# Altium footprint library PcbLibForHigh_Voltage_Sensor.PcbLib: 50 footprints (part 3 of 4)
Each footprint in its own frame and in the unit in brackets; x right, y up, seen from the top. Pads: shape width x height; smd on the part's side, far side on the other; paste and mask are expansions set on the pad; w line width, h text height; cw(c..) or ccw(c..) is an arc to the next point about the centre after c.
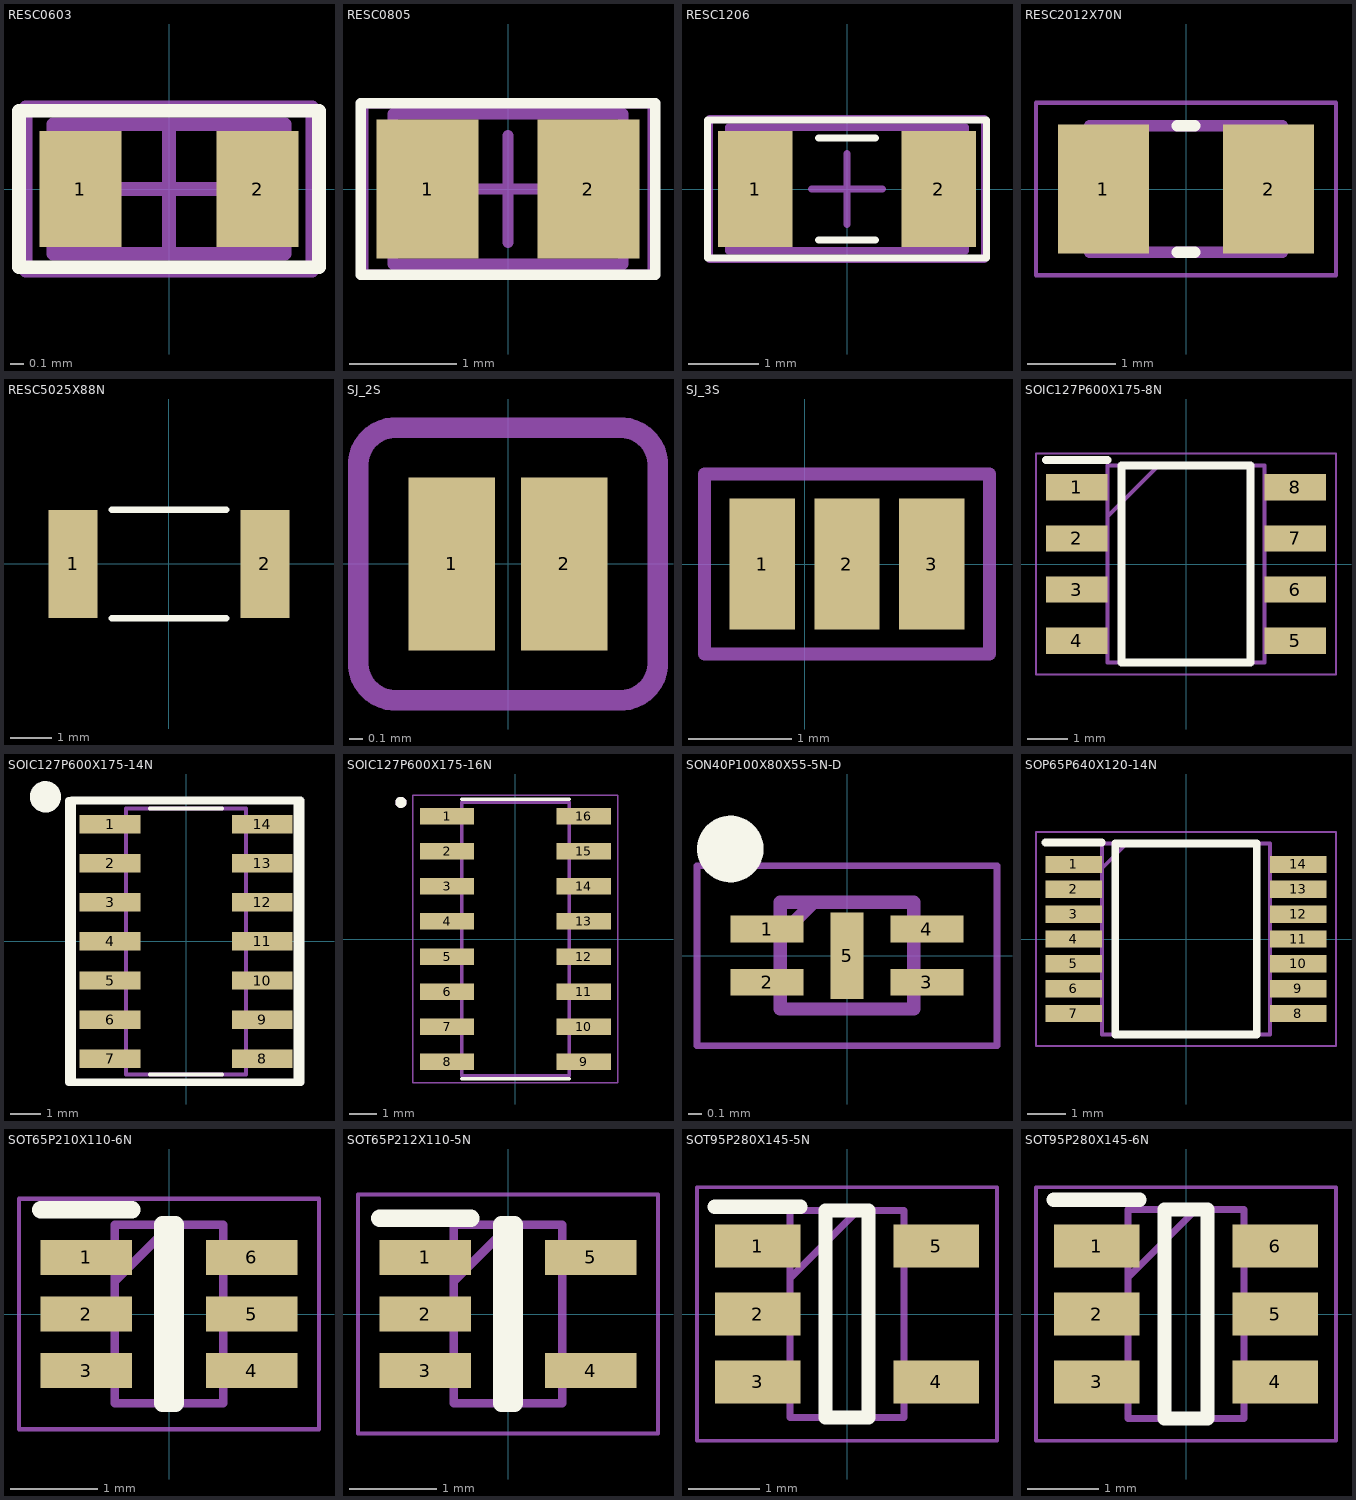
[diagram p2: the footprints below, top view; thin cyan lines are the x and y axes]

## RESC0603 [mm] "Chip Resistor 0603, 2-Leads, Body 1.60x0.82mm, IPC High Density"
height 0.6
pads (2):
  rect 0.6x0.85 smd: 1(-0.65,0) 2(0.65,0)
Top Overlay:
  lines w0.1: -1.1,-0.575 1.1,-0.575 1.1,0.575 -1.1,0.575 -1.1,-0.575
Mechanical 13:
  lines w0.1: -0.85,-0.475 -0.85,0.475 0.85,0.475 0.85,-0.475 -0.85,-0.475
Mechanical 15:
  lines w0.05: -1.05,-0.6 -1.05,0.6 1.05,0.6 1.05,-0.6 -1.05,-0.6
  lines w0.1: -0.475,0 0.475,0 ; 0,-0.475 0,0.475
Mechanical 29:
  lines w0.1: -1.05,-0.6 -1.05,0.6 1.05,0.6 1.05,-0.6 -1.05,-0.6
  text "'.Designator'" at -1.05,-0.2 h0.5
3D body: height 0.6, standoff 0, extent -0.57,-0.475 0.57,0.475
3D body: height 0.6, standoff 0, extent -0.85,-0.475 -0.57,0.475
3D body: height 0.6, standoff 0, extent 0.57,-0.475 0.85,0.475

## RESC0805 [mm] "Chip Resistor 0805, 2-Leads, Body 2.00x1.25mm, IPC High Density"
height 0.65
pads (2):
  rect 0.95x1.3 smd: 1(-0.75,0) 2(0.75,0)
Top Overlay:
  lines w0.1: -1.375,-0.8 -1.375,0.8 1.375,0.8 1.375,-0.8 -1.375,-0.8
Mechanical 13:
  lines w0.1: -1.075,-0.7 1.075,-0.7 1.075,0.7 -1.075,0.7 -1.075,-0.7
Mechanical 15:
  lines w0.05: -1.35,-0.8 1.35,-0.8 1.35,0.8 -1.35,0.8 -1.35,-0.8
  lines w0.1: -0.5,0 0.5,0 ; 0,-0.5 0,0.5
Mechanical 29:
  lines w0.1: -1.35,-0.8 1.35,-0.8 1.35,0.8 -1.35,0.8 -1.35,-0.8
  text "'.Designator'" at -1.2,-0.2 h0.5
3D body: height 0.65, standoff 0, extent 0.675,-0.7 1.075,0.7
3D body: height 0.65, standoff 0, extent -1.075,-0.7 -0.675,0.7
3D body: height 0.65, standoff 0, extent -0.675,-0.7 0.675,0.7

## RESC1206 [mm] "Chip Resistor 1206, 2-Leads, Body 3.20x1.60mm, IPC High Density"
height 0.71
pads (2):
  rect 1.05x1.65 smd: 1(-1.3,0) 2(1.3,0)
Top Overlay:
  lines w0.1: -0.4,-0.725 0.4,-0.725 ; -0.4,0.725 0.4,0.725 ; -1.975,-0.975 1.975,-0.975 1.975,0.975 -1.975,0.975 -1.975,-0.975
Mechanical 13:
  lines w0.1: -1.675,-0.875 -1.675,0.875 1.675,0.875 1.675,-0.875 -1.675,-0.875
Mechanical 15:
  lines w0.05: -1.95,-1 -1.95,1 1.95,1 1.95,-1 -1.95,-1
  lines w0.1: -0.5,0 0.5,0 ; 0,-0.5 0,0.5
Mechanical 29:
  lines w0.1: -1.95,-1 -1.95,1 1.95,1 1.95,-1 -1.95,-1
  text "'.Designator'" at -1.825,-0.225 h0.5
3D body: height 0.71, standoff 0, extent -1.175,-0.875 1.175,0.875
3D body: height 0.71, standoff 0, extent -1.675,-0.875 -1.175,0.875
3D body: height 0.71, standoff 0, extent 1.175,-0.875 1.675,0.875

## RESC2012X70N [mm]
pads (2):
  rect 1.04x1.47 smd: 1(-0.94,0) 2(0.94,0)
Top Overlay:
  lines w0.127: -0.1,-0.72 0.1,-0.72 ; -0.1,0.72 0.1,0.72
Mechanical 13:
  lines w0.127: -1.1,-0.72 1.1,-0.72 1.1,0.72 -1.1,0.72 -1.1,-0.72
Mechanical 15:
  lines w0.05: -1.708,-0.983 1.708,-0.983 1.708,0.983 -1.708,0.983 -1.708,-0.983
3D body "KRL1220E-M-R100-F-T5.STEP": height 0.7, standoff 0, extent -1.102,-0.635 0.898,0.615

## RESC5025X88N [mil]
pads (2):
  rect 47x104 smd: 1(-92,0) 2(92,0)
Top Overlay:
  lines w6: -55,-52 55,-52 ; -55,52 55,52
3D body "WSL2010R0100FEA.stp": height 25, standoff 0, extent -100,-50 100,50

## SJ_2S [mm] "SJ_2S"
pads (2):
  rect 0.635x1.27 smd: 1(-0.412,0) 2(0.412,0)
Mechanical 22:
  lines w0.152: -1.1,-0.75 ccw(c-0.825,-0.725) -0.8,-1 0.8,-1 ccw(c0.825,-0.725) 1.1,-0.75 1.1,0.75 ccw(c0.825,0.725) 0.8,1 -0.8,1 ccw(c-0.825,0.725) -1.1,0.75 -1.1,-0.75

## SJ_3S [mm]
pads (3):
  rect 0.635x1.27 smd: 1(-0.412,0) 2(0.412,0) 3(1.237,0)
Mechanical 15:
  lines w0.127: -0.975,-0.875 -0.975,0.875 1.8,0.875 1.8,-0.875 -0.975,-0.875

## SOIC127P600X175-8N [mm]
pads (8):
  rect 1.525x0.65 smd: 1(-2.712,1.905) 2(-2.712,0.635) 3(-2.712,-0.635) 4(-2.712,-1.905) 5(2.712,-1.905) 6(2.712,-0.635) 7(2.712,0.635) 8(2.712,1.905)
Top Overlay:
  lines w0.2: -3.475,2.58 -1.95,2.58 ; -1.6,-2.45 1.6,-2.45 1.6,2.45 -1.6,2.45 -1.6,-2.45
Mechanical 13:
  lines w0.1: -1.95,1.18 -0.68,2.45 ; -1.95,-2.45 1.95,-2.45 1.95,2.45 -1.95,2.45 -1.95,-2.45
Mechanical 15:
  lines w0.05: -3.725,-2.75 3.725,-2.75 3.725,2.75 -3.725,2.75 -3.725,-2.75
3D body "NE555DR.stp": height 1.75, standoff 0, extent -3,-2.45 3,2.45

## SOIC127P600X175-14N [mm]
pads (14):
  rect 1.97x0.6 smd: 1(-2.475,3.81) 2(-2.475,2.54) 3(-2.475,1.27) 4(-2.475,0) 5(-2.475,-1.27) 6(-2.475,-2.54) 7(-2.475,-3.81) 8(2.475,-3.81) 9(2.475,-2.54) 10(2.475,-1.27) 11(2.475,0) 12(2.475,1.27) 13(2.475,2.54) 14(2.475,3.81)
Top Overlay:
  circle w0.508: c-4.572,4.699 r0.254
  lines w0.127: -1.17,-4.325 1.17,-4.325 ; -1.17,4.325 1.17,4.325
  lines w0.254: -3.81,-4.578 -3.81,4.572 3.61,4.572 3.61,-4.578 -3.81,-4.578 ; -3.71,-4.575 3.71,-4.575 3.71,4.575 -3.71,4.575 -3.71,-4.575
Dimensions:
  lines w0.127: -1.95,-4.325 1.95,-4.325 ; -1.95,-4.325 -1.95,4.325 ; -1.95,-4.325 1.95,-4.325 ; -1.95,-4.325 -1.95,4.325 ; -1.95,4.325 1.95,4.325 ; -1.95,4.325 1.95,4.325 ; 1.95,-4.325 1.95,4.325 ; 1.95,-4.325 1.95,4.325
Mechanical 16:
  lines w0.05: -3.71,-4.575 3.71,-4.575 3.71,4.575 -3.71,4.575 -3.71,-4.575

## SOIC127P600X175-16N [mm]
pads (16):
  rect 1.97x0.6 smd: 1(-2.475,4.445) 2(-2.475,3.175) 3(-2.475,1.905) 4(-2.475,0.635) 5(-2.475,-0.635) 6(-2.475,-1.905) 7(-2.475,-3.175) 8(-2.475,-4.445) 9(2.475,-4.445) 10(2.475,-3.175) 11(2.475,-1.905) 12(2.475,-0.635) 13(2.475,0.635) 14(2.475,1.905) 15(2.475,3.175) 16(2.475,4.445)
Top Overlay:
  circle w0.2: c-4.145,4.945 r0.1
  lines w0.127: -1.95,-5.065 1.95,-5.065 ; -1.95,5.065 1.95,5.065
Dimensions:
  circle w0.2: c-4.145,4.945 r0.1
  circle w0.2: c-4.145,4.945 r0.1
  lines w0.127: -1.95,-4.95 1.95,-4.95 ; -1.95,-4.95 -1.95,4.95 ; -1.95,-4.95 1.95,-4.95 ; -1.95,-4.95 -1.95,4.95 ; -1.95,4.95 1.95,4.95 ; -1.95,4.95 1.95,4.95 ; 1.95,-4.95 1.95,4.95 ; 1.95,-4.95 1.95,4.95
Mechanical 16:
  lines w0.05: -3.71,-5.2 3.71,-5.2 3.71,5.2 -3.71,5.2 -3.71,-5.2

## SON40P100X80X55-5N-D [mm]
pads (5):
  rect 0.55x0.2 smd: 1(-0.6,0.2) 2(-0.6,-0.2) 3(0.6,-0.2) 4(0.6,0.2)
  rect 0.25x0.65 smd: 5(0,0)
Top Overlay:
  circle w0.25: c-0.875,0.8 r0.125
Mechanical 13:
  lines w0.1: -0.5,0.15 -0.25,0.4 ; -0.5,-0.4 -0.5,0.4 0.5,0.4 0.5,-0.4 -0.5,-0.4
Mechanical 15:
  lines w0.05: -1.125,-0.675 -1.125,0.675 1.125,0.675 1.125,-0.675 -1.125,-0.675
3D body "USBULC6-2N4.stp": height 0.55, standoff 0, extent -0.55,-0.4 0.55,0.4

## SOP65P640X120-14N [mm]
pads (14):
  rect 1.475x0.45 smd: 1(-2.938,1.95) 2(-2.938,1.3) 3(-2.938,0.65) 4(-2.938,0) 5(-2.938,-0.65) 6(-2.938,-1.3) 7(-2.938,-1.95) 8(2.938,-1.95) 9(2.938,-1.3) 10(2.938,-0.65) 11(2.938,0) 12(2.938,0.65) 13(2.938,1.3) 14(2.938,1.95)
Top Overlay:
  lines w0.2: -3.675,2.525 -2.2,2.525 ; -1.85,-2.5 -1.85,2.5 1.85,2.5 1.85,-2.5 -1.85,-2.5
Mechanical 13:
  lines w0.1: -2.2,1.85 -1.55,2.5 ; -2.2,-2.5 -2.2,2.5 2.2,2.5 2.2,-2.5 -2.2,-2.5
Mechanical 15:
  lines w0.05: -3.925,-2.8 -3.925,2.8 3.925,2.8 3.925,-2.8 -3.925,-2.8
3D body "BQ35100PW.stp": height 1.2, standoff 0, extent -3.2,-2.5 3.2,2.5

## SOT65P210X110-6N [mm]
pads (6):
  rect 1.05x0.4 smd: 1(-0.95,0.65) 2(-0.95,0) 3(-0.95,-0.65) 4(0.95,-0.65) 5(0.95,0) 6(0.95,0.65)
Top Overlay:
  lines w0.2: -1.475,1.2 -0.425,1.2 ; -0.075,-1.025 -0.075,1.025 0.075,1.025 0.075,-1.025 -0.075,-1.025
Mechanical 13:
  lines w0.1: -0.625,0.375 0.025,1.025 ; -0.625,-1.025 -0.625,1.025 0.625,1.025 0.625,-1.025 -0.625,-1.025
Mechanical 15:
  lines w0.05: -1.725,-1.325 -1.725,1.325 1.725,1.325 1.725,-1.325 -1.725,-1.325
3D body "PE4259-63.stp": height 1.1, standoff 0, extent -1.05,-1.025 1.05,1.025

## SOT65P212X110-5N [mm]
pads (5):
  rect 1.05x0.4 smd: 1(-0.95,0.65) 2(-0.95,0) 3(-0.95,-0.65) 4(0.95,-0.65) 5(0.95,0.65)
Top Overlay:
  lines w0.2: -1.475,1.1 -0.425,1.1 ; -0.075,-1.025 -0.075,1.025 0.075,1.025 0.075,-1.025 -0.075,-1.025
Mechanical 13:
  lines w0.1: -0.625,0.375 0.025,1.025 ; -0.625,-1.025 -0.625,1.025 0.625,1.025 0.625,-1.025 -0.625,-1.025
Mechanical 15:
  lines w0.05: -1.725,-1.375 -1.725,1.375 1.725,1.375 1.725,-1.375 -1.725,-1.375
3D body "74AUP1T02GWH.stp": height 1.1, standoff 0, extent -1.062,-1.025 1.062,1.025

## SOT95P280X145-5N [mm]
pads (5):
  rect 1.2x0.6 smd: 1(-1.25,0.95) 2(-1.25,0) 3(-1.25,-0.95) 4(1.25,-0.95) 5(1.25,0.95)
Top Overlay:
  lines w0.2: -1.85,1.5 -0.65,1.5 ; -0.3,-1.45 0.3,-1.45 0.3,1.45 -0.3,1.45 -0.3,-1.45
Mechanical 13:
  lines w0.1: -0.8,0.5 0.15,1.45 ; -0.8,-1.45 0.8,-1.45 0.8,1.45 -0.8,1.45 -0.8,-1.45
Mechanical 15:
  lines w0.05: -2.1,-1.775 2.1,-1.775 2.1,1.775 -2.1,1.775 -2.1,-1.775
3D body "TLV75533PDBVR.stp": height 1.45, standoff 0, extent -1.4,-1.45 1.4,1.45

## SOT95P280X145-6N [mm]
pads (6):
  rect 1.2x0.6 smd: 1(-1.25,0.95) 2(-1.25,0) 3(-1.25,-0.95) 4(1.25,-0.95) 5(1.25,0) 6(1.25,0.95)
Top Overlay:
  lines w0.2: -1.85,1.6 -0.65,1.6 ; -0.3,-1.462 -0.3,1.462 0.3,1.462 0.3,-1.462 -0.3,-1.462
Mechanical 13:
  lines w0.1: -0.812,0.512 0.138,1.462 ; -0.812,-1.462 -0.812,1.462 0.812,1.462 0.812,-1.462 -0.812,-1.462
Mechanical 15:
  lines w0.05: -2.1,-1.775 -2.1,1.775 2.1,1.775 2.1,-1.775 -2.1,-1.775
3D body "USBLC6-2SC6.stp": height 1.45, standoff 0, extent -1.4,-1.462 1.4,1.462